# EAGLE library part DRV777 (library wheat)
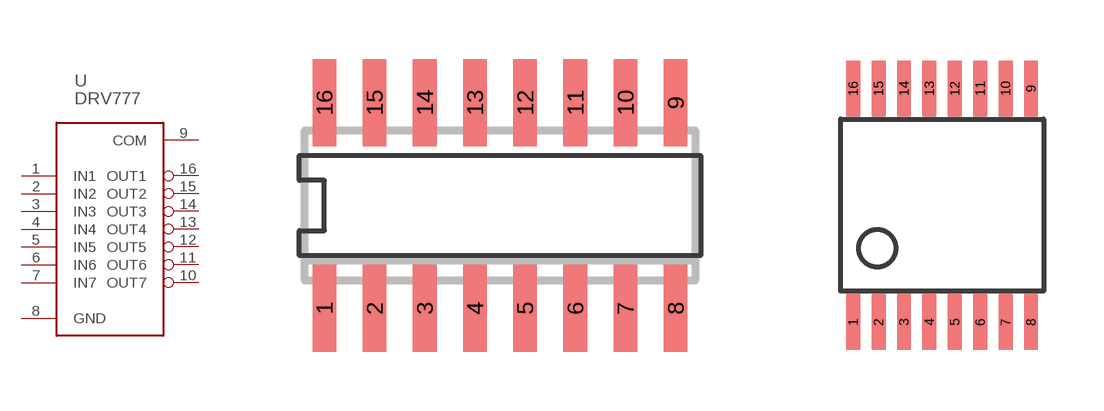
[diagram p181: symbol with the pads of SO16; footprints SO16, TSSOP16_TI_DW]

Designator prefix U

## DRV777D  [SO16]
1  IN1  in
2  IN2  in
3  IN3  in
4  IN4  in
5  IN5  in
6  IN6  in
7  IN7  in
8  GND  in
9  COM  in
10  OUT7  oc
11  OUT6  oc
12  OUT5  oc
13  OUT4  oc
14  OUT3  oc
15  OUT2  oc
16  OUT1  oc

## DRV777DW  [TSSOP16_TI_DW]
Pads as for SO16

## Footprint SO16 (pad centres in mm)
SO16, NARROW
smd 0.6 x 2.2: 1 -3.81,-2.6; 2 -2.54,-2.6; 3 -1.27,-2.6; 4 0,-2.6; 5 1.27,-2.6; 6 2.54,-2.6; 7 3.81,-2.6; 8 5.08,-2.6; 9 5.08,2.6; 10 3.81,2.6; 11 2.54,2.6; 12 1.27,2.6; 13 0,2.6; 14 -1.27,2.6; 15 -2.54,2.6; 16 -3.81,2.6

## Footprint TSSOP16_TI_DW (pad centres in mm)
smd 0.348 x 1.397: 1 -2.223,-2.919; 2 -1.588,-2.92; 3 -0.953,-2.92; 4 -0.318,-2.92; 5 0.318,-2.92; 6 0.953,-2.92; 7 1.588,-2.92; 8 2.223,-2.92; 9 2.223,2.92; 10 1.588,2.92; 11 0.953,2.92; 12 0.318,2.92; 13 -0.318,2.92; 14 -0.953,2.92; 15 -1.588,2.92; 16 -2.223,2.92